# EAGLE library part TRANSFORM (library untitled)
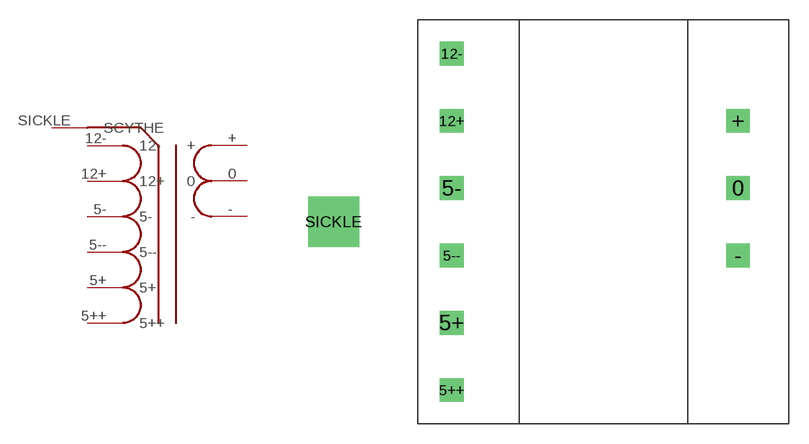
[diagram p1: symbol with the pads of TRANSFORM; footprint TRANSFORM]

Designator prefix -

## TRANSFORM  [TRANSFORM]
0  0
5+  5+
5++  5++
5-  5-
5--  5--
12+  12+
12-  12-
+  +
-  -
SICKLE  SCYTHE

## Footprint TRANSFORM (pad centres in mm)
drill 1.2 square: 0 10.16,2.54; 5+ -11.43,-7.62; 5++ -11.43,-12.7; 5- -11.43,2.54; 5-- -11.43,-2.54; 12+ -11.43,7.62; 12- -11.43,12.7; + 10.16,7.62; - 10.16,-2.54
drill 2.8 square: SICKLE -20.32,0